# Altium schematic symbol library MC74HCT14ADR2G-Q.SchLib: 1 symbol
Pins are listed as number, name and electrical type; pins without a type are passive.

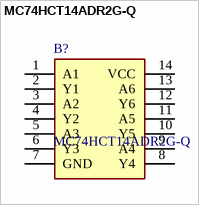
[diagram p0: symbol MC74HCT14ADR2G-Q]

## MC74HCT14ADR2G-Q
designator B?
In Compliance with the Requirements Defined by JEDEC Standard No. 7A; TTL/NMOS-Compatible Input Levels; Chip Complexity: 72 FETs or 18 Equivalent Gates; Operating Voltage Range: 4.5 to 5.5 V; Output Drive Capability: 10 LSTTL Loads; Outputs Directly Interface to CMOS, NMOS and TTL; Low Input Current: 1.0 mA; Pb-Free Packages are Available; Manufacturer_Name: onsemi; Geometry.Height: 1.75mm; Manufacturer_Part_Number: MC74HCT14ADR2G-Q; Mouser Part Number: *; Mouser Price/Stock: *; Arrow Part Number: *; Arrow Price/Stock: *; Datasheet Link: https://www.onsemi.com/pub/Collateral/MC74HC14A-D.PDF
footprint SOIC127P600X175-14N
pins: 1 A1, 2 Y1, 3 A2, 4 Y2, 5 A3, 6 Y3, 7 GND, 8 Y4, 9 A4, 10 Y5, 11 A5, 12 Y6, 13 A6, 14 VCC